# Altium schematic symbol library SCH - CONNECTORS - 2 PIN.SCHLIB: 1 symbol
Pins are listed as number, name and electrical type; pins without a type are passive.

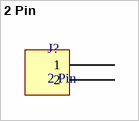
[diagram p0: symbol 2 Pin]

## 2 Pin
designator J?
footprint FCI 06-381-2PIN (FCI Pluggable Terminal Block)
footprint TE 282834-2
footprint 2 Pin Solder Pads
pins: 1, 2